# EAGLE library part BQ20Z655_DBT_44 (library RalimTek)
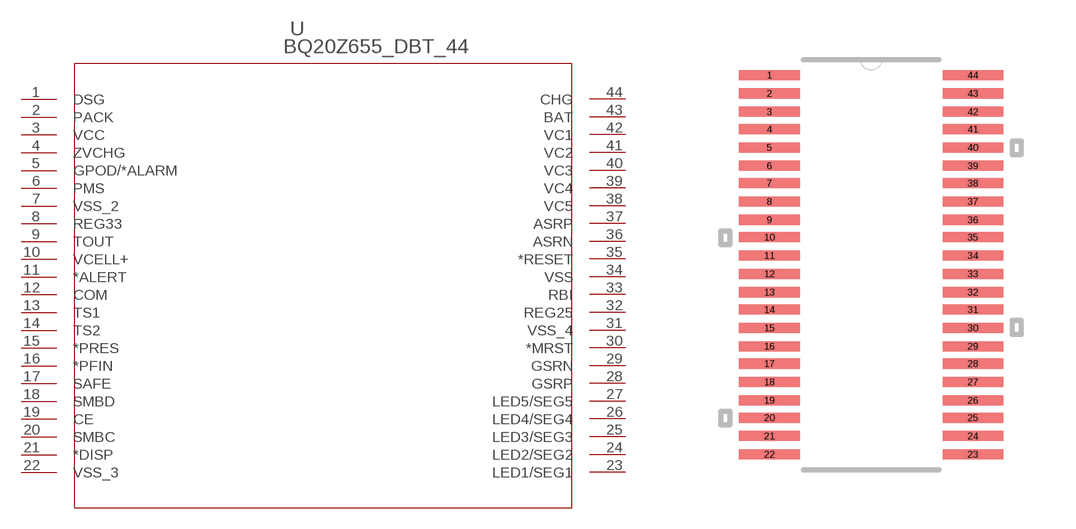
[diagram p15: symbol with the pads of DBT44; footprint DBT44]

Designator prefix U

## BQ20Z655_DBT_44 (DATASHEETURL: http://www.ti.com/lit/gpn/BQ20Z655; DESCRIPTION: SBS 1.1 Compliant Gas Gauge with LED/LCD Drive feature and Impedance Track Technology; FAMILY_NAME: BATTERY FUEL GAUGE; GENERIC_PART_NUMBER: BQ20Z655; INDUSTRY_STD_PKG_TYPE: TSSOP; MANUFACTURER: Texas Instruments; PACKAGE_DESIGNATOR: DBT; PIN_COUNT: 44)  [DBT44]
1  DSG  out
2  PACK  in
3  VCC  pwr
4  ZVCHG  out
5  GPOD/*ALARM  out
6  PMS  in
7  VSS_2  pwr
8  REG33  pwr
9  TOUT  out
10  VCELL+  out
11  *ALERT  out
12  COM  out
13  TS1  in
14  TS2  in
15  *PRES  in
16  *PFIN  in
17  SAFE  out
18  SMBD
19  CE  pas
20  SMBC
21  *DISP  in
22  VSS_3  pwr
23  LED1/SEG1  in
24  LED2/SEG2  in
25  LED3/SEG3  in
26  LED4/SEG4  in
27  LED5/SEG5  in
28  GSRP  in
29  GSRN  in
30  *MRST  in
31  VSS_4  pwr
32  REG25  pwr
33  RBI  pwr
34  VSS  pwr
35  *RESET  out
36  ASRN  in
37  ASRP  in
38  VC5  in
39  VC4  in
40  VC3  in
41  VC2  in
42  VC1  in
43  BAT  in
44  CHG  out

## Footprint DBT44 (pad centres in mm)
smd 1.676 x 0.279: 1 -2.819,5.258; 2 -2.819,4.75; 3 -2.819,4.242; 4 -2.819,3.759; 5 -2.819,3.251; 6 -2.819,2.743; 7 -2.819,2.261; 8 -2.819,1.753; 9 -2.819,1.245; 10 -2.819,0.762; 11 -2.819,0.254; 12 -2.819,-0.254; 13 -2.819,-0.762; 14 -2.819,-1.245; 15 -2.819,-1.753; 16 -2.819,-2.261; 17 -2.819,-2.743; 18 -2.819,-3.251; 19 -2.819,-3.759; 20 -2.819,-4.242; 21 -2.819,-4.75; 22 -2.819,-5.258; 23 2.819,-5.258; 24 2.819,-4.75; 25 2.819,-4.242; 26 2.819,-3.759; 27 2.819,-3.251; 28 2.819,-2.743; 29 2.819,-2.261; 30 2.819,-1.753; 31 2.819,-1.245; 32 2.819,-0.762; 33 2.819,-0.254; 34 2.819,0.254; 35 2.819,0.762; 36 2.819,1.245; 37 2.819,1.753; 38 2.819,2.261; 39 2.819,2.743; 40 2.819,3.251; 41 2.819,3.759; 42 2.819,4.242; 43 2.819,4.75; 44 2.819,5.258